# Altium footprint library MWT.PcbLib: 1 footprints
Each footprint in its own frame and in the unit in brackets; x right, y up, seen from the top. Pads: shape width x height; smd on the part's side, far side on the other; paste and mask are expansions set on the pad; w line width, h text height; cw(c..) or ccw(c..) is an arc to the next point about the centre after c.
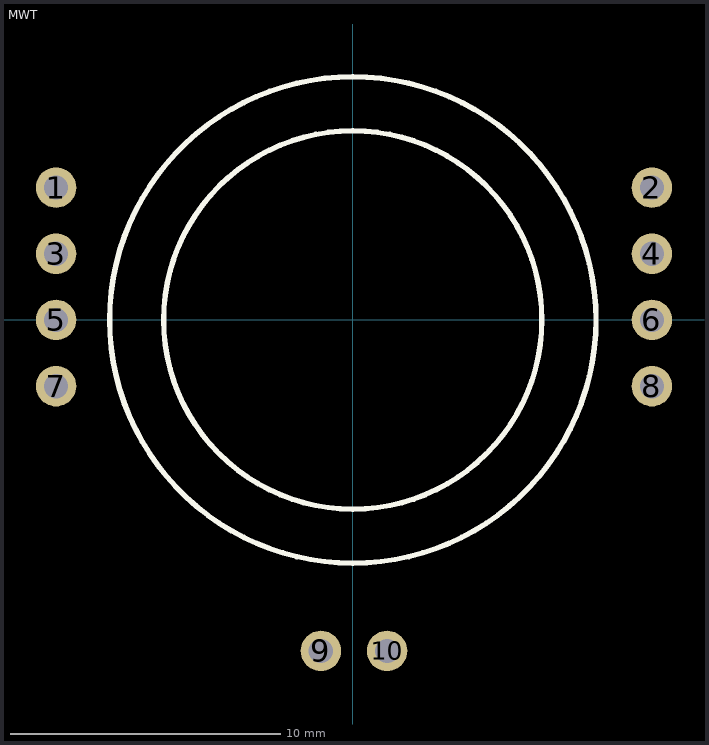
[diagram p0: the footprint, top view; thin cyan lines are the x and y axes]

## MWT [mm]
pads (10):
  round 1.5 hole 0.9: 1(-10.98,4.9) 2(11.07,4.9) 3(-10.98,2.45) 4(11.07,2.45) 5(-10.98,0) 6(11.07,0) 7(-10.98,-2.45) 8(11.07,-2.45) 9(-1.18,-12.25) 10(1.27,-12.25)
Top Overlay:
  circle w0.2: c0,0 r9
  circle w0.2: c0,0 r7
3D body: height 8, standoff 0, extent -8,-8 8,8